# Altium footprint library STM32VET6_PCBLIB.PcbLib: 13 footprints
Each footprint in its own frame and in the unit in brackets; x right, y up, seen from the top. Pads: shape width x height; smd on the part's side, far side on the other; paste and mask are expansions set on the pad; w line width, h text height; cw(c..) or ccw(c..) is an arc to the next point about the centre after c.
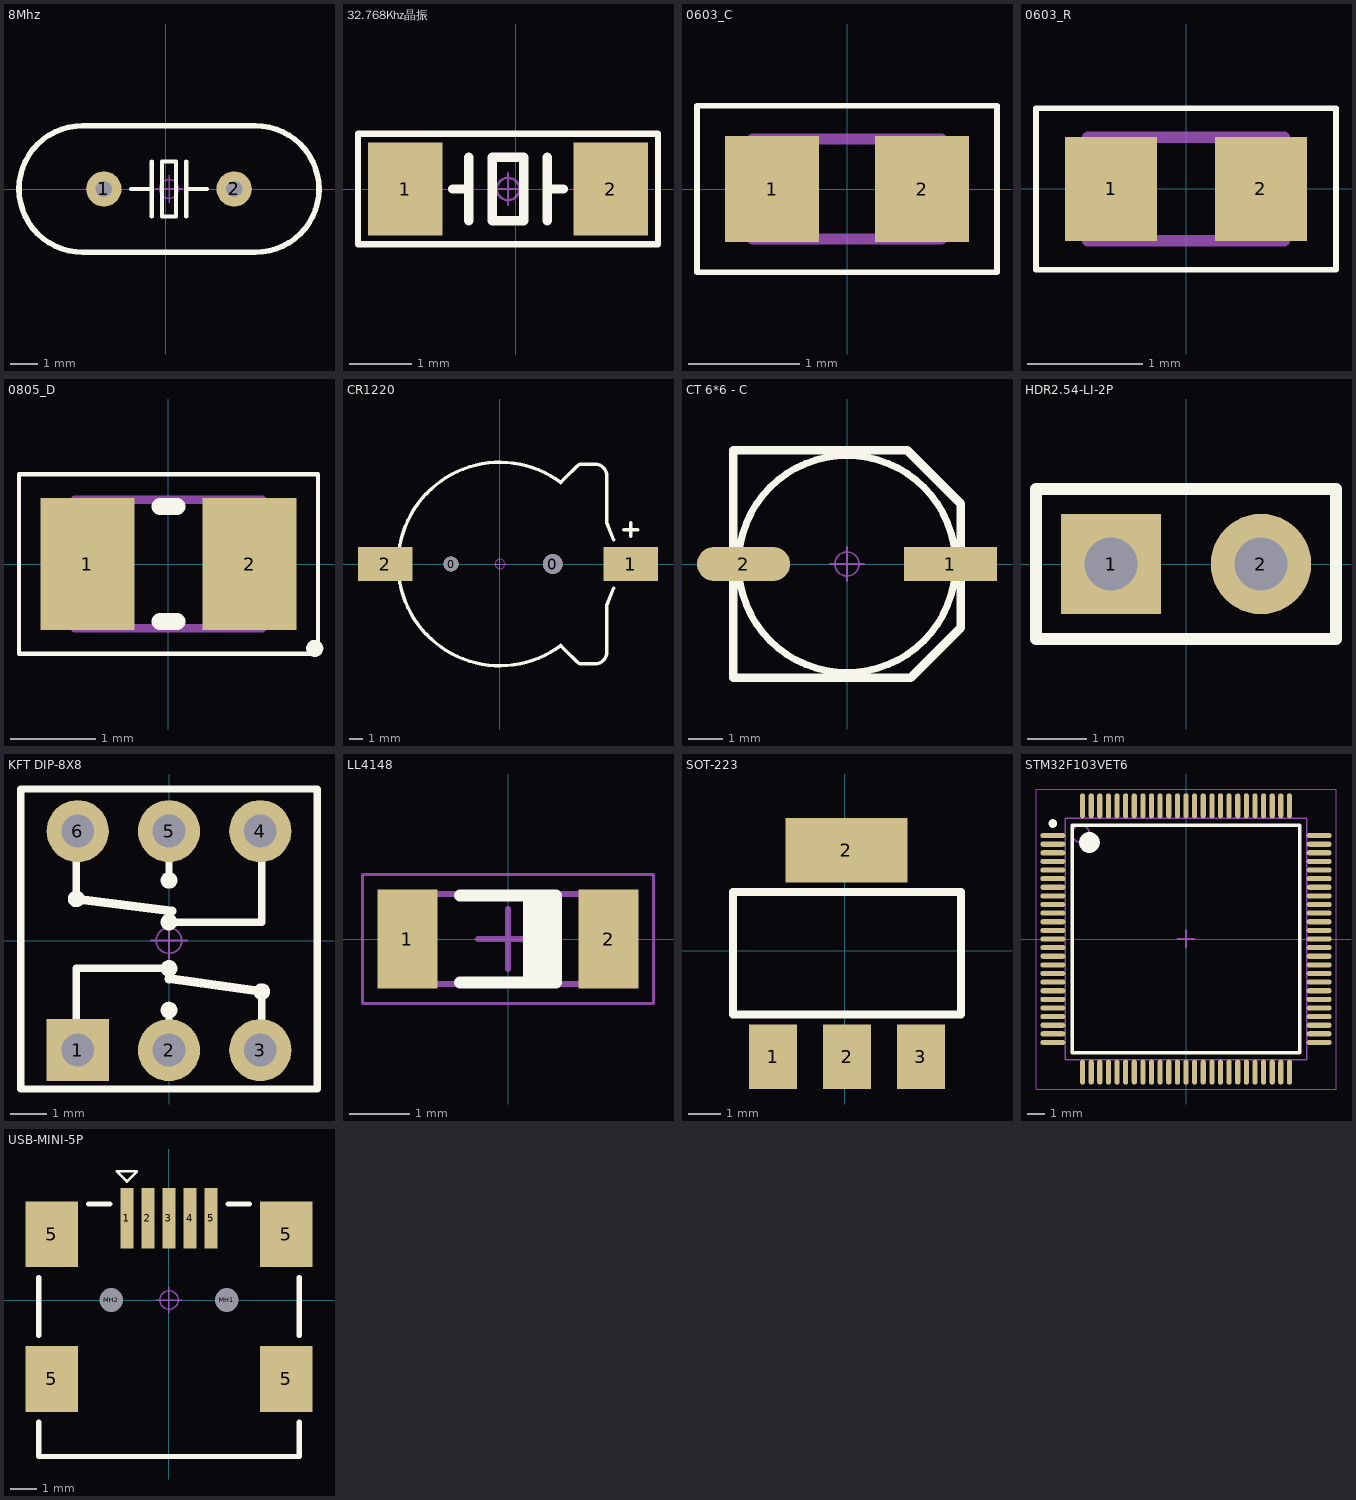
[diagram p0: the footprints below, top view; thin cyan lines are the x and y axes]

## 8Mhz [mm] "HC-49S8MHZ20PF30PPM"
height 3.5
pads (2):
  round 1.3 hole 0.6: 1(-2.273,0) 2(2.527,0)
Top Overlay:
  lines w0.152: -1.27,0 -0.508,0 ; -0.508,-1.016 -0.508,1.016 ; 0.762,-1.016 0.762,1.016 ; 0.762,0 1.524,0 ; -0.127,-1.016 -0.127,1.016 0.381,1.016 0.381,-1.016 -0.127,-1.016
  lines w0.203: -3.048,2.325 ccw(c-3.073,0) -3.046,-2.325 3.302,-2.325 ccw(c3.327,0) 3.3,2.325 -3.048,2.325
Mechanical 15:
  circle w0.05: c0.127,0 r0.35
  lines w0.05: -0.373,0 0.627,0 ; 0.127,-0.5 0.127,0.5
3D body "OSC HC-49U.STEP": height 13.95, standoff -3.45, extent -5.398,-2.325 5.652,2.325

## 32.768Khz晶振 [mm] "3215_2脚贴片"
height 0.8
pads (2):
  rect 1.2x1.5 smd: 1(-1.777,0) 2(1.523,0)
Top Overlay:
  lines w0.1: -2.54,-0.889 2.286,-0.889 2.286,0.889 -2.54,0.889 -2.54,-0.889
  lines w0.152: -1.016,0 -0.762,0 ; -0.762,-0.508 -0.762,0.508 ; 0.508,-0.508 0.508,0.508 ; 0.508,0 0.762,0 ; -0.381,-0.508 -0.381,0.508 0.127,0.508 0.127,-0.508 -0.381,-0.508
Mechanical 15:
  circle w0.04: c-0.127,0 r0.18
  lines w0.04: -0.381,0 0.127,0 ; -0.127,-0.254 -0.127,0.254
3D body "OSC 3215-2.STEP": height 0.61, standoff -0.01, extent -1.727,-0.75 1.473,0.75

## 0603_C [mm] "Chip Capacitor, 2-Leads, Body 1.60x0.80mm, IPC Medium Density"
height 0.9
pads (2):
  rect 0.85x0.95 smd: 1(-0.675,0) 2(0.675,0)
Top Overlay:
  lines w0.05: -1.35,-0.75 1.35,-0.75 1.35,0.75 -1.35,0.75 -1.35,-0.75
Mechanical 13:
  lines w0.1: -0.85,-0.45 0.85,-0.45 0.85,0.45 -0.85,0.45 -0.85,-0.45
3D body "CAPC1608X09N.step": height 0.9, standoff 0, extent -0.85,-0.45 0.85,0.45

## 0603_R [mm] "Chip Resistor, 2-Leads, Body 1.60x0.80mm, IPC Medium Density"
height 0.9
pads (2):
  rect 0.8x0.9 smd: 1(-0.65,0) 2(0.65,0)
Top Overlay:
  lines w0.05: -1.3,-0.7 -1.3,0.7 1.3,0.7 1.3,-0.7 -1.3,-0.7
Mechanical 13:
  lines w0.1: -0.85,-0.45 -0.85,0.45 0.85,0.45 0.85,-0.45 -0.85,-0.45
3D body "RESC1608X09N.step": height 0.9, standoff 0, extent -0.85,-0.45 0.85,0.45

## 0805_D [mm] "Chip Diode, 2-Leads, Body 2.10x1.35mm, IPC Medium Density"
height 0.9
pads (2):
  rect 1.1x1.55 smd: 1(-0.95,0) 2(0.95,0)
Top Overlay:
  circle w0.1: c1.712,-0.987 r0.05
  lines w0.05: -1.75,-1.05 -1.75,1.05 1.75,1.05 1.75,-1.05 -1.75,-1.05
  lines w0.2: -0.1,-0.675 0.1,-0.675 ; -0.1,0.675 0.1,0.675
Mechanical 13:
  lines w0.1: -1.1,-0.75 -1.1,0.75 1.1,0.75 1.1,-0.75 -1.1,-0.75
3D body: height 0.9, standoff 0, extent -0.65,-0.75 0.65,0.75
3D body: height 0.9, standoff 0, extent -1.1,-0.75 -0.65,0.75
3D body: height 0.9, standoff 0, extent 0.65,-0.75 1.1,0.75

## CR1220 [mm] "纽扣电池座"
height 4.1
pads (4):
  round 1.1 hole 1.1: 0(-3.6,0)
  round 1.45 hole 1.45: 0(3.9,0)
  rect 4x2.5 smd: 1(9.652,0) 2(-8.458,0)
Top Overlay:
  lines w0.254: 4.5,-6 cw(c0,0) 4.5,6 ; 4.572,-6.096 4.826,-6.35 5.662,-7.186 ccw(c6.096,-6.753) 6.096,-7.366 7.007,-7.366 ccw(c7.007,-6.499) 7.874,-6.499 7.874,-3.048 8.382,-1.778 ; 4.572,6.096 4.826,6.35 5.662,7.186 cw(c6.096,6.753) 6.096,7.366 7.007,7.366 cw(c7.007,6.499) 7.874,6.499 7.874,3.048 8.382,1.778 ; 9.144,2.54 10.16,2.54 ; 9.652,2.032 9.652,3.048
Mechanical 15:
  circle w0.05: c0,0 r0.35
  lines w0.05: -0.5,0 0.5,0 ; 0,-0.5 0,0.5
3D body "CR1220_A.STEP": height 4.05, standoff -0.85, extent -9.416,-7.45 10.34,7.45

## CT 6*6 - C [mm] "直径6mm，高6mm"
pads (2):
  rect 2.7x1 smd: 1(3,0)
  oval 2.7x1 smd: 2(-3,0)
Top Overlay:
  circle w0.2: c0,0 r3.15
  lines w0.254: -3.3,-3.3 1.85,-3.3 3.3,-1.85 3.3,1.75 1.75,3.3 -3.3,3.3 -3.3,-3.3
Mechanical 15:
  circle w0.05: c0,0 r0.35
  lines w0.05: -0.5,0 0.5,0 ; 0,-0.5 0,0.5
3D body "CT 6X6-C.STEP": height 6, standoff -0.01, extent -3.5,-3.15 3.5,3.15

## HDR2.54-LI-2P [mm] "排针，2脚"
pads (2):
  rect 1.7x1.7 hole 0.9: 1(-1.27,0)
  round 1.7 hole 0.9: 2(1.27,0)
Top Overlay:
  lines w0.2: -2.54,-1.27 -2.54,1.27 2.54,1.27 2.54,-1.27 -2.54,-1.27
3D body "HDR2.54-1P.STEP": height 8.5, standoff -3, extent 0,-1.27 2.54,1.27
3D body "HDR2.54-1P.STEP": height 8.5, standoff -3, extent -2.54,-1.27 0,1.27

## KFT DIP-8X8 [mm] "自锁开关，规格：8*8mm"
pads (6):
  rect 1.7x1.7 hole 0.9: 1(-2.5,-3)
  round 1.7 hole 0.9: 2(0,-3) 3(2.5,-3) 4(2.5,3) 5(0,3) 6(-2.5,3)
Top Overlay:
  circle w0.254: c-2.54,1.143 r0.102
  circle w0.254: c0,1.651 r0.102
  circle w0.254: c0,-1.905 r0.102
  circle w0.254: c2.54,-1.397 r0.102
  circle w0.254: c0,0.508 r0.102
  circle w0.254: c0,-0.762 r0.102
  lines w0.2: -4.064,-4.064 4.064,-4.064 4.064,4.153 -4.064,4.153 -4.064,-4.064
  lines w0.203: -2.54,-3.048 -2.54,-0.762 0,-0.762 ; -2.54,1.143 -2.54,2.794 ; 0,-3.048 0,-1.771 ; 0,0.508 2.54,0.508 2.54,2.794 ; 0,1.6 0,2.794 ; 2.54,-3.048 2.54,-1.397
  lines w0.254: -2.54,1.143 0.076,0.813 ; 0,-1.041 2.54,-1.397
Mechanical 15:
  circle w0.05: c0,0 r0.35
  lines w0.05: -0.5,0 0.5,0 ; 0,-0.5 0,0.5
3D body "SLSW 8x8.STEP": height 13.1, standoff -3.2, extent -3.949,-3.949 4.051,4.051

## LL4148 [mm] "MELF Diode, 2-Leads, Body 3.45x1.45mm, IPC Medium Density"
height 1.5
pads (2):
  rect 1x1.65 smd: 1(-1.675,0) 2(1.675,0)
Top Overlay:
  rectangle: 0.25,-0.725 0.8,0.725
  lines w0.2: -0.8,-0.725 0.8,-0.725 0.8,0.725 -0.8,0.725
Mechanical 13:
  lines w0.1: -1.75,-0.75 -1.75,0.75 1.75,0.75 1.75,-0.75 -1.75,-0.75
Mechanical 15:
  lines w0.05: -2.425,-1.075 -2.425,1.075 2.425,1.075 2.425,-1.075 -2.425,-1.075
  lines w0.1: -0.5,0 0.5,0 ; 0,-0.5 0,0.5
3D body "DIOMELF3414N.step": height 1.45, standoff 0.01, extent -1.725,-0.724 1.725,0.724

## SOT-223 [mil]
pads (4):
  rect 59x79 smd: 1(-88,-130) 2(2.55,-130) 3(93.1,-130)
  rect 150x79 smd: 2(1.88,123.54)
Top Overlay:
  lines w10: -137.45,-78 -137.45,72 142.55,72 142.55,-78 -137.45,-78
3D body "SOT-223_MP04A.STEP": height 66.93, standoff 0, extent -126.41,-138.72 129.5,135.3

## STM32F103VET6 [mm] "TSQFP, 100-Leads, Body 14.00x14.00mm, Pitch 0.50mm, IPC Medium Density"
height 1.6
pads (100):
  oval 1.45x0.3 smd: 1(-7.725,6) 2(-7.725,5.5) 3(-7.725,5) 4(-7.725,4.5) 5(-7.725,4) 6(-7.725,3.5) 7(-7.725,3) 8(-7.725,2.5) 9(-7.725,2) 10(-7.725,1.5) 11(-7.725,1) 12(-7.725,0.5) 13(-7.725,0) 14(-7.725,-0.5) 15(-7.725,-1) 16(-7.725,-1.5) 17(-7.725,-2) 18(-7.725,-2.5) 19(-7.725,-3) 20(-7.725,-3.5) 21(-7.725,-4) 22(-7.725,-4.5) 23(-7.725,-5) 24(-7.725,-5.5) 25(-7.725,-6) 51(7.725,-6) 52(7.725,-5.5) 53(7.725,-5) 54(7.725,-4.5) 55(7.725,-4) 56(7.725,-3.5) 57(7.725,-3) 58(7.725,-2.5) 59(7.725,-2) 60(7.725,-1.5) 61(7.725,-1) 62(7.725,-0.5) 63(7.725,0) 64(7.725,0.5) 65(7.725,1) 66(7.725,1.5) 67(7.725,2) 68(7.725,2.5) 69(7.725,3) 70(7.725,3.5) 71(7.725,4) 72(7.725,4.5) 73(7.725,5) 74(7.725,5.5) 75(7.725,6)
  oval 0.3x1.45 smd: 26(-6,-7.725) 27(-5.5,-7.725) 28(-5,-7.725) 29(-4.5,-7.725) 30(-4,-7.725) 31(-3.5,-7.725) 32(-3,-7.725) 33(-2.5,-7.725) 34(-2,-7.725) 35(-1.5,-7.725) 36(-1,-7.725) 37(-0.5,-7.725) 38(0,-7.725) 39(0.5,-7.725) 40(1,-7.725) 41(1.5,-7.725) 42(2,-7.725) 43(2.5,-7.725) 44(3,-7.725) 45(3.5,-7.725) 46(4,-7.725) 47(4.5,-7.725) 48(5,-7.725) 49(5.5,-7.725) 50(6,-7.725) 76(6,7.725) 77(5.5,7.725) 78(5,7.725) 79(4.5,7.725) 80(4,7.725) 81(3.5,7.725) 82(3,7.725) 83(2.5,7.725) 84(2,7.725) 85(1.5,7.725) 86(1,7.725) 87(0.5,7.725) 88(0,7.725) 89(-0.5,7.725) 90(-1,7.725) 91(-1.5,7.725) 92(-2,7.725) 93(-2.5,7.725) 94(-3,7.725) 95(-3.5,7.725) 96(-4,7.725) 97(-4.5,7.725) 98(-5,7.725) 99(-5.5,7.725) 100(-6,7.725)
Top Overlay:
  circle w0.25: c-7.725,6.7 r0.125
  circle w0.6: c-5.6,5.6 r0.3
  lines w0.2: -6.6,-6.6 -6.6,6.6 6.6,6.6 6.6,-6.6 -6.6,-6.6
Mechanical 13:
  circle w0.1: c-6.1,6.1 r0.5
  lines w0.1: -7,-7 -7,7 7,7 7,-7 -7,-7
Mechanical 15:
  lines w0.05: -8.7,-8.7 -8.7,8.7 8.7,8.7 8.7,-8.7 -8.7,-8.7
  lines w0.1: -0.5,0 0.5,0 ; 0,-0.5 0,0.5
3D body "TSQFP50P1600X1600X160-100N.step": height 1.6, standoff 0, extent -8,-8 8,8

## USB-MINI-5P [mm] "MINI型USB，7.9*7.5*4.1mm"
pads (11):
  rect 0.5x2.3 smd: 1(-1.6,3.108) 2(-0.8,3.108) 3(0,3.108) 4(0.8,3.108) 5(1.6,3.108)
  rect 2x2.5 smd: 5(-4.45,-3) 5(-4.45,2.5) 5(4.45,-3) 5(4.45,2.5)
  round 0.6 hole 0.9 unplated: MH1(2.2,0) MH2(-2.2,0)
Top Overlay:
  lines w0.1: -1.981,4.886 -1.6,4.505 -1.219,4.886 -1.981,4.886
  lines w0.2: -4.95,-4.65 -4.95,-5.95 4.95,-5.95 4.95,-4.65 ; -4.95,-1.35 -4.95,0.85 ; -3.05,3.65 -2.25,3.65 ; 2.25,3.65 3.05,3.65 ; 4.95,-1.35 4.95,0.85
Mechanical 15:
  circle w0.05: c0,0 r0.35
  lines w0.05: -0.5,0 0.5,0 ; 0,-0.5 0,0.5
3D body "USB MINI B型 ?": height 3.95, standoff -0.7, extent -4.75,-6 4.75,3.7